# Altium footprint library CP2102N-A02-GQFN24R.PcbLib: 4 footprints
Each footprint in its own frame and in the unit in brackets; x right, y up, seen from the top. Pads: shape width x height; smd on the part's side, far side on the other; paste and mask are expansions set on the pad; w line width, h text height; cw(c..) or ccw(c..) is an arc to the next point about the centre after c.
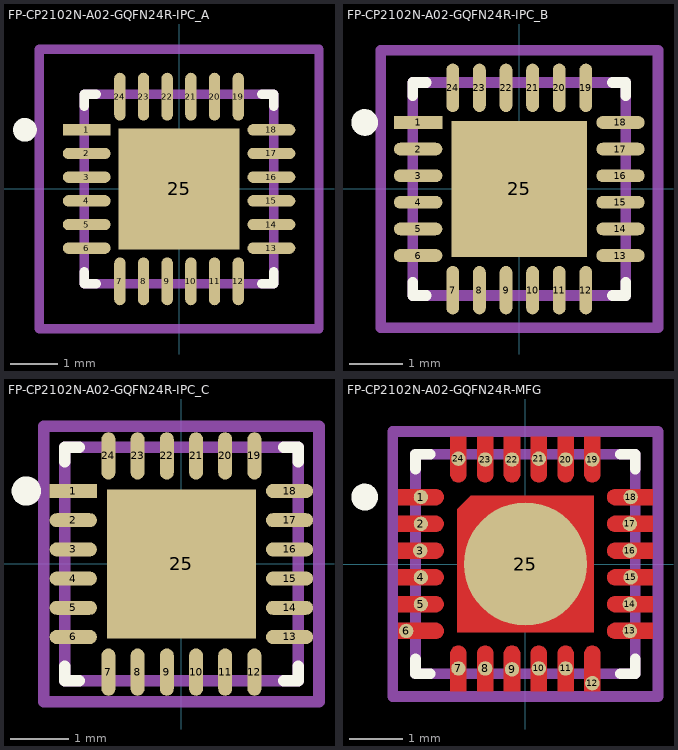
[diagram p0: the footprints below, top view; thin cyan lines are the x and y axes]

## FP-CP2102N-A02-GQFN24R-IPC_A [mm]
pads (25):
  rect 1.01x0.239 smd paste+0 mask+0: 1(-1.951,1.25)
  rrect100% 1.01x0.239 smd paste+0 mask+0: 2(-1.951,0.75) 3(-1.951,0.25) 4(-1.951,-0.25) 5(-1.951,-0.75) 6(-1.951,-1.25) 13(1.951,-1.25) 14(1.951,-0.75) 15(1.951,-0.25) 16(1.951,0.25) 17(1.951,0.75) 18(1.951,1.25)
  rrect100% 0.239x1.01 smd paste+0 mask+0: 7(-1.25,-1.951) 8(-0.75,-1.951) 9(-0.25,-1.951) 10(0.25,-1.951) 11(0.75,-1.951) 12(1.25,-1.951) 19(1.25,1.951) 20(0.75,1.951) 21(0.25,1.951) 22(-0.25,1.951) 23(-0.75,1.951) 24(-1.25,1.951)
  rect 2.55x2.55 smd paste-1000 mask+0: 25(0,0)
Top Overlay:
  circle w0.25: c-3.256,1.25 r0.125
  lines w0.2: -2,-1.75 -2,-2 -1.75,-2 ; -2,1.75 -2,2 -1.75,2 ; 1.75,-2 2,-2 2,-1.75 ; 1.75,2 2,2 2,1.75
Top Paste:
  rectangle: -0.806,-0.806 0.806,0.806
Top Assembly:
  lines w0.2: -2.956,-2.956 2.956,-2.956 2.956,2.956 -2.956,2.956 -2.956,-2.956
  text ".Designator" at 0,0.188 h1
Top 3D Body:
  lines w0.2: -2,-2 2,-2 2,2 -2,2 -2,-2
Top Courtyard:
  lines w0.2: -2.956,-2.956 2.956,-2.956 2.956,2.956 -2.956,2.956 -2.956,-2.956
Top Component Center:
  lines w0.1: -0.5,0 0.5,0 ; 0,-0.5 0,0.5
3D body "IC_Silicon_Labs_CP2102N-A02-GQFN24R_eec.STEP": height 0.25, standoff 0, extent -2.956,-2.956 2.956,2.956

## FP-CP2102N-A02-GQFN24R-IPC_B [mm]
pads (25):
  rect 0.91x0.239 smd paste+0 mask+0: 1(-1.901,1.25)
  rrect100% 0.91x0.239 smd paste+0 mask+0: 2(-1.901,0.75) 3(-1.901,0.25) 4(-1.901,-0.25) 5(-1.901,-0.75) 6(-1.901,-1.25) 13(1.901,-1.25) 14(1.901,-0.75) 15(1.901,-0.25) 16(1.901,0.25) 17(1.901,0.75) 18(1.901,1.25)
  rrect100% 0.239x0.91 smd paste+0 mask+0: 7(-1.25,-1.901) 8(-0.75,-1.901) 9(-0.25,-1.901) 10(0.25,-1.901) 11(0.75,-1.901) 12(1.25,-1.901) 19(1.25,1.901) 20(0.75,1.901) 21(0.25,1.901) 22(-0.25,1.901) 23(-0.75,1.901) 24(-1.25,1.901)
  rect 2.55x2.55 smd paste-1000 mask+0: 25(0,0)
Top Overlay:
  circle w0.25: c-2.906,1.25 r0.125
  lines w0.2: -2,-1.75 -2,-2 -1.75,-2 ; -2,1.75 -2,2 -1.75,2 ; 1.75,-2 2,-2 2,-1.75 ; 1.75,2 2,2 2,1.75
Top Paste:
  rectangle: -0.806,-0.806 0.806,0.806
Top Assembly:
  lines w0.2: -2.606,-2.606 2.606,-2.606 2.606,2.606 -2.606,2.606 -2.606,-2.606
  text ".Designator" at 0,0.188 h1
Top 3D Body:
  lines w0.2: -2,-2 2,-2 2,2 -2,2 -2,-2
Top Courtyard:
  lines w0.2: -2.606,-2.606 2.606,-2.606 2.606,2.606 -2.606,2.606 -2.606,-2.606
Top Component Center:
  lines w0.1: -0.5,0 0.5,0 ; 0,-0.5 0,0.5
3D body "IC_Silicon_Labs_CP2102N-A02-GQFN24R_eec.STEP": height 0.25, standoff 0, extent -2.606,-2.606 2.606,2.606

## FP-CP2102N-A02-GQFN24R-IPC_C [mm]
pads (25):
  rect 0.81x0.239 smd paste+0 mask+0: 1(-1.851,1.25)
  rrect100% 0.81x0.239 smd paste+0 mask+0: 2(-1.851,0.75) 3(-1.851,0.25) 4(-1.851,-0.25) 5(-1.851,-0.75) 6(-1.851,-1.25) 13(1.851,-1.25) 14(1.851,-0.75) 15(1.851,-0.25) 16(1.851,0.25) 17(1.851,0.75) 18(1.851,1.25)
  rrect100% 0.239x0.81 smd paste+0 mask+0: 7(-1.25,-1.851) 8(-0.75,-1.851) 9(-0.25,-1.851) 10(0.25,-1.851) 11(0.75,-1.851) 12(1.25,-1.851) 19(1.25,1.851) 20(0.75,1.851) 21(0.25,1.851) 22(-0.25,1.851) 23(-0.75,1.851) 24(-1.25,1.851)
  rect 2.55x2.55 smd paste-1000 mask+0: 25(0,0)
Top Overlay:
  circle w0.25: c-2.656,1.25 r0.125
  lines w0.2: -2,-1.75 -2,-2 -1.75,-2 ; -2,1.75 -2,2 -1.75,2 ; 1.75,-2 2,-2 2,-1.75 ; 1.75,2 2,2 2,1.75
Top Paste:
  rectangle: -0.806,-0.806 0.806,0.806
Top Assembly:
  lines w0.2: -2.356,-2.356 2.356,-2.356 2.356,2.356 -2.356,2.356 -2.356,-2.356
  text ".Designator" at 0,0.188 h1
Top 3D Body:
  lines w0.2: -2,-2 2,-2 2,2 -2,2 -2,-2
Top Courtyard:
  lines w0.2: -2.356,-2.356 2.356,-2.356 2.356,2.356 -2.356,2.356 -2.356,-2.356
Top Component Center:
  lines w0.1: -0.5,0 0.5,0 ; 0,-0.5 0,0.5
3D body "IC_Silicon_Labs_CP2102N-A02-GQFN24R_eec.STEP": height 0.25, standoff 0, extent -2.356,-2.356 2.356,2.356

## FP-CP2102N-A02-GQFN24R-MFG [mm]
pads (25):
  round 0.27 smd paste+0 mask+0: 1(-1.95,1.25) 2(-1.95,0.75) 3(-1.965,0.25) 4(-1.95,-0.25) 5(-1.95,-0.75) 6(-2.225,-1.25) 7(-1.25,-1.95) 8(-0.75,-1.95) 9(-0.25,-1.965) 10(0.25,-1.95) 11(0.75,-1.95) 12(1.25,-2.225) 13(1.95,-1.25) 14(1.95,-0.75) 15(1.965,-0.25) 16(1.95,0.25) 17(1.95,0.75) 18(1.965,1.25) 19(1.25,1.95) 20(0.75,1.95) 21(0.25,1.965) 22(-0.25,1.95) 23(-0.75,1.95) 24(-1.25,1.965)
  round 2.295 smd paste-1000 mask+0: 25(0,0)
Top Layer:
  region: -2.375,1.4 -1.675,1.4 -1.645,1.4 -1.59,1.377 -1.548,1.335 -1.525,1.28 -1.525,1.25 -1.525,1.22 -1.548,1.165 -1.59,1.123 -1.645,1.1 -1.675,1.1 -2.375,1.1
  region: -2.375,0.9 -1.675,0.9 -1.645,0.9 -1.59,0.877 -1.548,0.835 -1.525,0.78 -1.525,0.75 -1.525,0.72 -1.548,0.665 -1.59,0.623 -1.645,0.6 -1.675,0.6 -2.375,0.6
  region: -2.375,0.4 -1.675,0.4 -1.645,0.4 -1.59,0.377 -1.548,0.335 -1.525,0.28 -1.525,0.25 -1.525,0.22 -1.548,0.165 -1.59,0.123 -1.645,0.1 -1.675,0.1 -2.375,0.1
  region: -2.375,-0.1 -1.675,-0.1 -1.645,-0.1 -1.59,-0.123 -1.548,-0.165 -1.525,-0.22 -1.525,-0.25 -1.525,-0.28 -1.548,-0.335 -1.59,-0.377 -1.645,-0.4 -1.675,-0.4 -2.375,-0.4
  region: -2.375,-0.6 -1.675,-0.6 -1.645,-0.6 -1.59,-0.623 -1.548,-0.665 -1.525,-0.72 -1.525,-0.75 -1.525,-0.78 -1.548,-0.835 -1.59,-0.877 -1.645,-0.9 -1.675,-0.9 -2.375,-0.9
  region: -2.375,-1.1 -1.675,-1.1 -1.645,-1.1 -1.59,-1.123 -1.548,-1.165 -1.525,-1.22 -1.525,-1.25 -1.525,-1.28 -1.548,-1.335 -1.59,-1.377 -1.645,-1.4 -1.675,-1.4 -2.375,-1.4
  region: 2.375,-1.4 1.675,-1.4 1.645,-1.4 1.59,-1.377 1.548,-1.335 1.525,-1.28 1.525,-1.25 1.525,-1.22 1.548,-1.165 1.59,-1.123 1.645,-1.1 1.675,-1.1 2.375,-1.1
  region: 2.375,-0.9 1.675,-0.9 1.645,-0.9 1.59,-0.877 1.548,-0.835 1.525,-0.78 1.525,-0.75 1.525,-0.72 1.548,-0.665 1.59,-0.623 1.645,-0.6 1.675,-0.6 2.375,-0.6
  region: 2.375,-0.4 1.675,-0.4 1.645,-0.4 1.59,-0.377 1.548,-0.335 1.525,-0.28 1.525,-0.25 1.525,-0.22 1.548,-0.165 1.59,-0.123 1.645,-0.1 1.675,-0.1 2.375,-0.1
  region: 2.375,0.1 1.675,0.1 1.645,0.1 1.59,0.123 1.548,0.165 1.525,0.22 1.525,0.25 1.525,0.28 1.548,0.335 1.59,0.377 1.645,0.4 1.675,0.4 2.375,0.4
  region: 2.375,0.6 1.675,0.6 1.645,0.6 1.59,0.623 1.548,0.665 1.525,0.72 1.525,0.75 1.525,0.78 1.548,0.835 1.59,0.877 1.645,0.9 1.675,0.9 2.375,0.9
  region: 2.375,1.1 1.675,1.1 1.645,1.1 1.59,1.123 1.548,1.165 1.525,1.22 1.525,1.25 1.525,1.28 1.548,1.335 1.59,1.377 1.645,1.4 1.675,1.4 2.375,1.4
  region: -1.4,-2.375 -1.4,-1.675 -1.4,-1.645 -1.377,-1.59 -1.335,-1.548 -1.28,-1.525 -1.25,-1.525 -1.22,-1.525 -1.165,-1.548 -1.123,-1.59 -1.1,-1.645 -1.1,-1.675 -1.1,-2.375
  region: -0.9,-2.375 -0.9,-1.675 -0.9,-1.645 -0.877,-1.59 -0.835,-1.548 -0.78,-1.525 -0.75,-1.525 -0.72,-1.525 -0.665,-1.548 -0.623,-1.59 -0.6,-1.645 -0.6,-1.675 -0.6,-2.375
  region: -0.4,-2.375 -0.4,-1.675 -0.4,-1.645 -0.377,-1.59 -0.335,-1.548 -0.28,-1.525 -0.25,-1.525 -0.22,-1.525 -0.165,-1.548 -0.123,-1.59 -0.1,-1.645 -0.1,-1.675 -0.1,-2.375
  region: 0.1,-2.375 0.1,-1.675 0.1,-1.645 0.123,-1.59 0.165,-1.548 0.22,-1.525 0.25,-1.525 0.28,-1.525 0.335,-1.548 0.377,-1.59 0.4,-1.645 0.4,-1.675 0.4,-2.375
  region: 0.6,-2.375 0.6,-1.675 0.6,-1.645 0.623,-1.59 0.665,-1.548 0.72,-1.525 0.75,-1.525 0.78,-1.525 0.835,-1.548 0.877,-1.59 0.9,-1.645 0.9,-1.675 0.9,-2.375
  region: 1.1,-2.375 1.1,-1.675 1.1,-1.645 1.123,-1.59 1.165,-1.548 1.22,-1.525 1.25,-1.525 1.28,-1.525 1.335,-1.548 1.377,-1.59 1.4,-1.645 1.4,-1.675 1.4,-2.375
  region: 1.4,2.375 1.4,1.675 1.4,1.645 1.377,1.59 1.335,1.548 1.28,1.525 1.25,1.525 1.22,1.525 1.165,1.548 1.123,1.59 1.1,1.645 1.1,1.675 1.1,2.375
  region: 0.9,2.375 0.9,1.675 0.9,1.645 0.877,1.59 0.835,1.548 0.78,1.525 0.75,1.525 0.72,1.525 0.665,1.548 0.623,1.59 0.6,1.645 0.6,1.675 0.6,2.375
  region: 0.4,2.375 0.4,1.675 0.4,1.645 0.377,1.59 0.335,1.548 0.28,1.525 0.25,1.525 0.22,1.525 0.165,1.548 0.123,1.59 0.1,1.645 0.1,1.675 0.1,2.375
  region: -0.1,2.375 -0.1,1.675 -0.1,1.645 -0.123,1.59 -0.165,1.548 -0.22,1.525 -0.25,1.525 -0.28,1.525 -0.335,1.548 -0.377,1.59 -0.4,1.645 -0.4,1.675 -0.4,2.375
  region: -0.6,2.375 -0.6,1.675 -0.6,1.645 -0.623,1.59 -0.665,1.548 -0.72,1.525 -0.75,1.525 -0.78,1.525 -0.835,1.548 -0.877,1.59 -0.9,1.645 -0.9,1.675 -0.9,2.375
  region: -1.1,2.375 -1.1,1.675 -1.1,1.645 -1.123,1.59 -1.165,1.548 -1.22,1.525 -1.25,1.525 -1.28,1.525 -1.335,1.548 -1.377,1.59 -1.4,1.645 -1.4,1.675 -1.4,2.375
  region: -1.275,1.025 -1.025,1.275 1.275,1.275 1.275,-1.275 -1.275,-1.275
Top Overlay:
  circle w0.25: c-3,1.25 r0.125
  lines w0.2: -2.05,-1.775 -2.05,-2.05 -1.775,-2.05 ; -2.05,1.775 -2.05,2.05 -1.775,2.05 ; 1.775,-2.05 2.05,-2.05 2.05,-1.775 ; 1.775,2.05 2.05,2.05 2.05,1.775
Top Paste:
  rectangle: -1.05,0.15 -0.15,1.05
  rectangle: -1.05,-1.05 -0.15,-0.15
  rectangle: 0.15,-1.05 1.05,-0.15
  rectangle: 0.15,0.15 1.05,1.05
Top Assembly:
  lines w0.2: -2.475,-2.475 2.475,-2.475 2.475,2.475 -2.475,2.475 -2.475,-2.475
  text ".Designator" at 0,0.188 h1
Top 3D Body:
  lines w0.2: -2.05,-2.05 2.05,-2.05 2.05,2.05 -2.05,2.05 -2.05,-2.05
Top Courtyard:
  lines w0.2: -2.475,-2.475 2.475,-2.475 2.475,2.475 -2.475,2.475 -2.475,-2.475
Top Component Center:
  lines w0.1: -0.5,0 0.5,0 ; 0,-0.5 0,0.5
3D body "IC_Silicon_Labs_CP2102N-A02-GQFN24R_eec.STEP": height 0.25, standoff 0, extent -2.475,-2.475 2.475,2.475